# EAGLE library part WE-RJ45_7499311614 (library Wurth_Signal & Communications_WE-RJ45_LAN)
WE-RJ45 LAN Transformer Characteristics RJ45 Connector with integrated transformer / common mode choke Power over Ethernet up to 50 Watt and speeds up to 10 Gbit/s Available in SMD, THT and THT with USB Compliant with standards: IEEE 802.3u, IEEE 802.3ab, IEEE 802.3af, IEEE 802.3at, IEEE 802.3an and upcoming IEE 802.3bt Applications Suitable for industrial temperatures from –40 °C up to +85 °C Compatible to Industrial Ethernet systems like EtherCAT or Profinet Compliant with most IC’s for Ethernet applications such as Microchip, Texas Instruments, Broadcom, Linear Technology Hubs, Routers, Switches, IP cameras, IoT applications <https://www.we-online.com/components/media/o35731v209%20Family-WE-RJ45LAN-7499xxxxxx.jpg> Details see: www.we-online.com/components/products/WE-LAN-RJ45 <www.we-online.com/catalog/WE-LAN-RJ45/?utm_source=eagle_model&utm_medium=description_link&utm_campaign=eisos_eagle> Updated by Ella Wu 2021-06-08 2021 (C) Wurth Elektronik
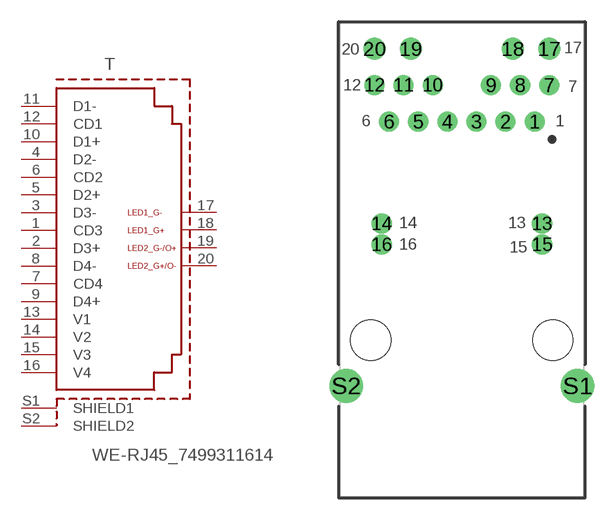
[diagram p51: symbol with the pads of 7499311614; footprint 7499311614]

Designator prefix T

## WE-RJ45_7499311614 (DATA-RATE: 1001 Base-T; DATASHEET-URL: https://www.we-online.com/redexpert/spec/7499311614?ae; LED: green/orange-green; MOUNT: THT; PART-NUMBER: 7499311614; POE: PoE (up to 350 mA each center Tap); PORTS: 1; USB: No; VALUE: 7499311614)  [7499311614]
1  CD3  pas
2  D3+  pas
3  D3-  pas
4  D2-  pas
5  D2+  pas
6  CD2  pas
7  CD4  pas
8  D4-  pas
9  D4+  pas
10  D1+  pas
11  D1-  pas
12  CD1  pas
13  V1  pas
14  V2  pas
15  V3  pas
16  V4  pas
17  LED1_G-  pas
18  LED1_G+  pas
19  LED2_G-/O+  pas
20  LED2_G+/O-  pas
S1  SHIELD1  pas
S2  SHIELD2  pas

## Footprint 7499311614 (pad centres in mm)
WE-RJ45 LAN Transformer 1000 Base-T
drill 0.89: 1 5.075,15.24; 2 3.045,15.24; 3 1.015,15.24; 4 -1.015,15.24; 5 -3.045,15.24; 6 -5.075,15.24; 7 6.09,17.78; 8 4.06,17.78; 9 2.03,17.78; 10 -2.03,17.78; 11 -4.06,17.78; 12 -6.09,17.78
drill 0.89 pad 1.25: 13 5.59,8.12; 14 -5.59,8.12; 15 5.59,6.66; 16 -5.59,6.66
drill 1.02: 17 6.09,20.32; 18 3.555,20.32; 19 -3.555,20.32; 20 -6.09,20.32
drill 1.57: S1 8.065,-3.18; S2 -8.065,-3.18
hole 2.8 at -6.35,0
hole 2.8 at 6.35,0